# Altium footprint library PcbLib1.PcbLib: 6 footprints
Each footprint in its own frame and in the unit in brackets; x right, y up, seen from the top. Pads: shape width x height; smd on the part's side, far side on the other; paste and mask are expansions set on the pad; w line width, h text height; cw(c..) or ccw(c..) is an arc to the next point about the centre after c.
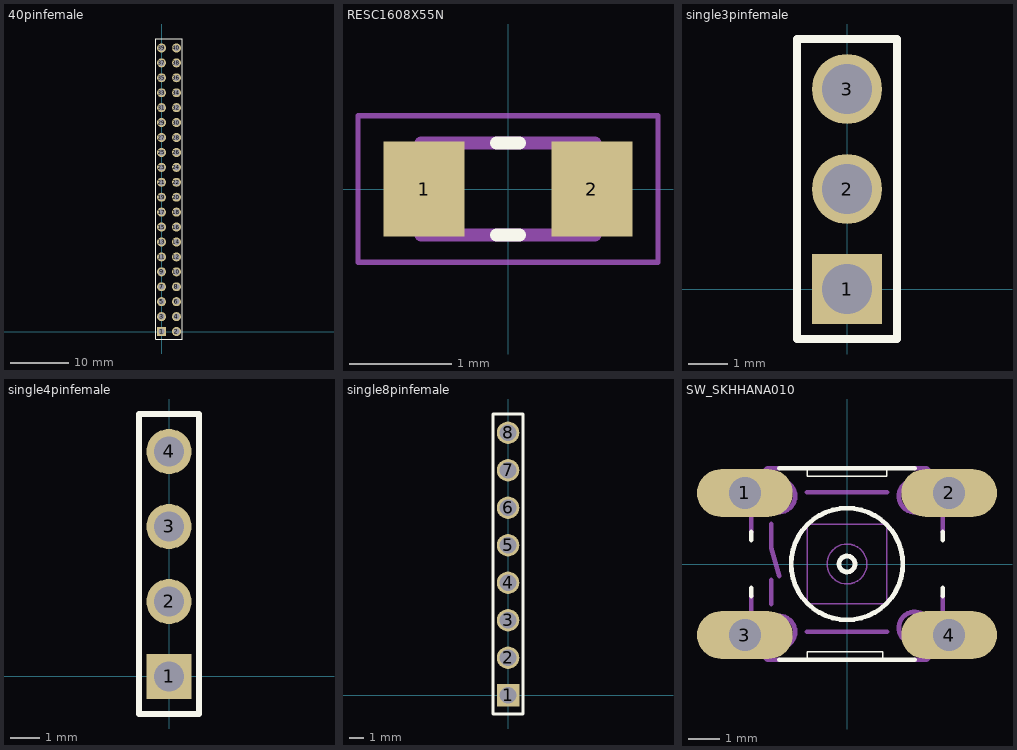
[diagram p0: the footprints below, top view; thin cyan lines are the x and y axes]

## 40pinfemale [mil]
pads (40):
  rect 60x60 hole 40: 1(0,0)
  round 60 hole 40: 2(100,0) 3(0,100) 4(100,100) 5(0,200) 6(100,200) 7(0,300) 8(100,300) 9(0,400) 10(100,400) 11(0,500) 12(100,500) 13(0,600) 14(100,600) 15(0,700) 16(100,700) 17(0,800) 18(100,800) 19(0,900) 20(100,900) 21(0,1000) 22(100,1000) 23(0,1100) 24(100,1100) 25(0,1200) 26(100,1200) 27(0,1300) 28(100,1300) 29(0,1400) 30(100,1400) 31(0,1500) 32(100,1500) 33(0,1600) 34(100,1600) 35(0,1700) 36(100,1700) 37(0,1800) 38(100,1800) 39(0,1900) 40(100,1900)
Top Overlay:
  lines w8: -40,-50 -40,1960 140,1960 140,-50 -40,-50
3D body "40 pin header extra tall 23.2mm v2.step": height 539.37, standoff -374.02, extent -47.85,-61 149,1966.56

## RESC1608X55N [mm]
pads (2):
  rect 0.79x0.93 smd: 1(-0.82,0) 2(0.82,0)
Top Overlay:
  lines w0.127: -0.11,-0.45 0.11,-0.45 ; -0.11,0.45 0.11,0.45
Mechanical 13:
  lines w0.127: -0.85,-0.45 -0.85,0.45 0.85,0.45 0.85,-0.45 -0.85,-0.45
Mechanical 15:
  lines w0.05: -1.465,-0.715 -1.465,0.715 1.465,0.715 1.465,-0.715 -1.465,-0.715
3D body "step_temp.STEP": height 0.55, standoff 0, extent -0.825,-0.4 0.775,0.4

## single3pinfemale [mil]
pads (3):
  rect 70x70 hole 50: 1(0,0)
  round 70 hole 50: 2(0,100) 3(0,200)
Top Overlay:
  lines w8: -50,-50 -50,250 50,250 50,-50 -50,-50
3D body "3-Pin Header - Female - 2.54mm.step": height 196.85, standoff -118.11, extent -48.43,-57.84 50,261.84

## single4pinfemale [mil]
pads (4):
  rect 60x60 hole 40: 1(0,0)
  round 60 hole 40: 2(0,100) 3(0,200) 4(0,300)
Top Overlay:
  lines w8: -40,-50 40,-50 40,350 -40,350 -40,-50
3D body "H254_90deg_4pin.STEP": height 100, standoff -141.61, extent -10,-50 397.53,350

## single8pinfemale [mil]
pads (8):
  rect 60x60 hole 45: 1(0,0)
  round 60 hole 45: 2(0,100) 3(0,200) 4(0,300) 5(0,400) 6(0,500) 7(0,600) 8(0,700)
Top Overlay:
  lines w8: -40,-50 40,-50 40,750 -40,750 -40,-50
3D body "100mill Female Pin Header_8P_Bk.STEP": height 334.65, standoff -118.11, extent -48,-59.87 46.49,755.87

## SW_SKHHANA010 [mil]
pads (4):
  oval 120x60 hole 40: 1(-128,89) 2(128,89) 3(-128,-89) 4(128,-89)
Top Overlay:
  circle w6: c0,0 r10
  circle w6: c0,0 r70
  lines w2: -50,-120 -50,-110 45,-110 45,-120 ; -50,120 -50,110 50,110 50,120
  lines w6: -120,-40 -120,-30 ; -120,30 -120,40 ; -85,-120 -50,-120 45,-120 85,-120 ; -85,120 -50,120 50,120 85,120 ; 120,-40 120,-30 ; 120,30 120,40
Mechanical 13:
  circle w2: c0,0 r25
  circle w6: c-85,85 r20
  circle w6: c85,85 r20
  circle w6: c85,-80 r20
  circle w6: c-85,-85 r20
  lines w2: -50,-50 50,-50 50,50 -50,50 -50,-50
  lines w6: -120,-40 -120,-100 -100,-120 -85,-120 ; -120,40 -120,100 -100,120 -85,120 ; -95,-50 -95,-20 ; -95,50 -95,20 -85,-15 ; -50,-85 50,-85 ; -50,90 50,90 ; 85,-120 100,-120 120,-100 120,-40 ; 85,120 100,120 120,100 120,40
  text "4" at 140.14,-110.11 h50.05
  text "3" at -180.16,-110.1 h50.04
  text "2" at 140.21,60.09 h50.08
  text "1" at -170.13,65.05 h50.04
3D body "skhhana010.stp": height 374.02, standoff -137.8, extent -152.51,-122.05 158.51,122.05